# EAGLE library part HD-H108 (library display-hp)
LED DISPLAY + - 1/2 character, decimal point right
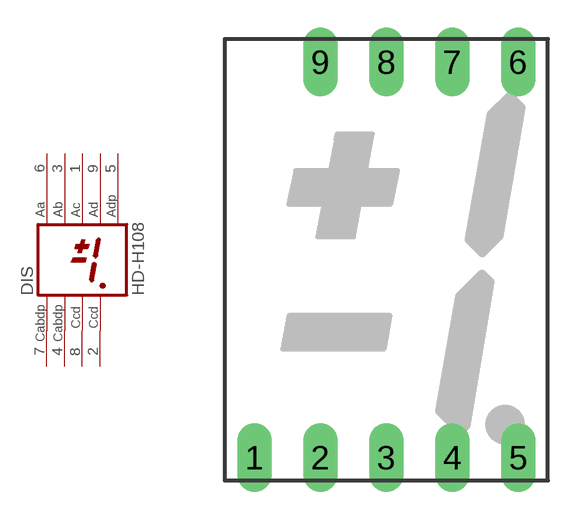
[diagram p32: symbol with the pads of HDSP-O; footprint HDSP-O]

Designator prefix DIS

## HD-H108 (OC_FARNELL: unknown; OC_NEWARK: unknown)  [HDSP-O]
1  AC  pas
2  CCD  pas
3  AB  pas
4  CABDP  pas
5  ADP  pas
6  AA  pas
7  CABDP  pas
8  CCD  pas
9  AD  pas

## Footprint HDSP-O (pad centres in mm)
LED DISPLAY 15-mm + - 1/2 character, decimal point right
drill 0.813 long: 1 -5.08,-7.62; 2 -2.54,-7.62; 3 0,-7.62; 4 2.54,-7.62; 5 5.08,-7.62; 6 5.08,7.62; 7 2.54,7.62; 8 0,7.62; 9 -2.54,7.62